# Altium integrated library EEUFR1J471.IntLib: 1 symbol
Pins are listed as number, name and electrical type; pins without a type are passive.

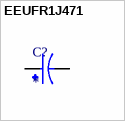
[diagram p0: symbol EEUFR1J471]

## EEUFR1J471
designator C?
FR-A; MP: EEUFR1J471; Package: None; Price: None; Value: *; Availability: Unavailable
footprint CAPPRD500W60D1250H2500
pins: N, P